# Altium schematic symbol library MCU.SchLib: 25 symbols (part 1 of 3)
Pins are listed as number, name and electrical type; pins without a type are passive.

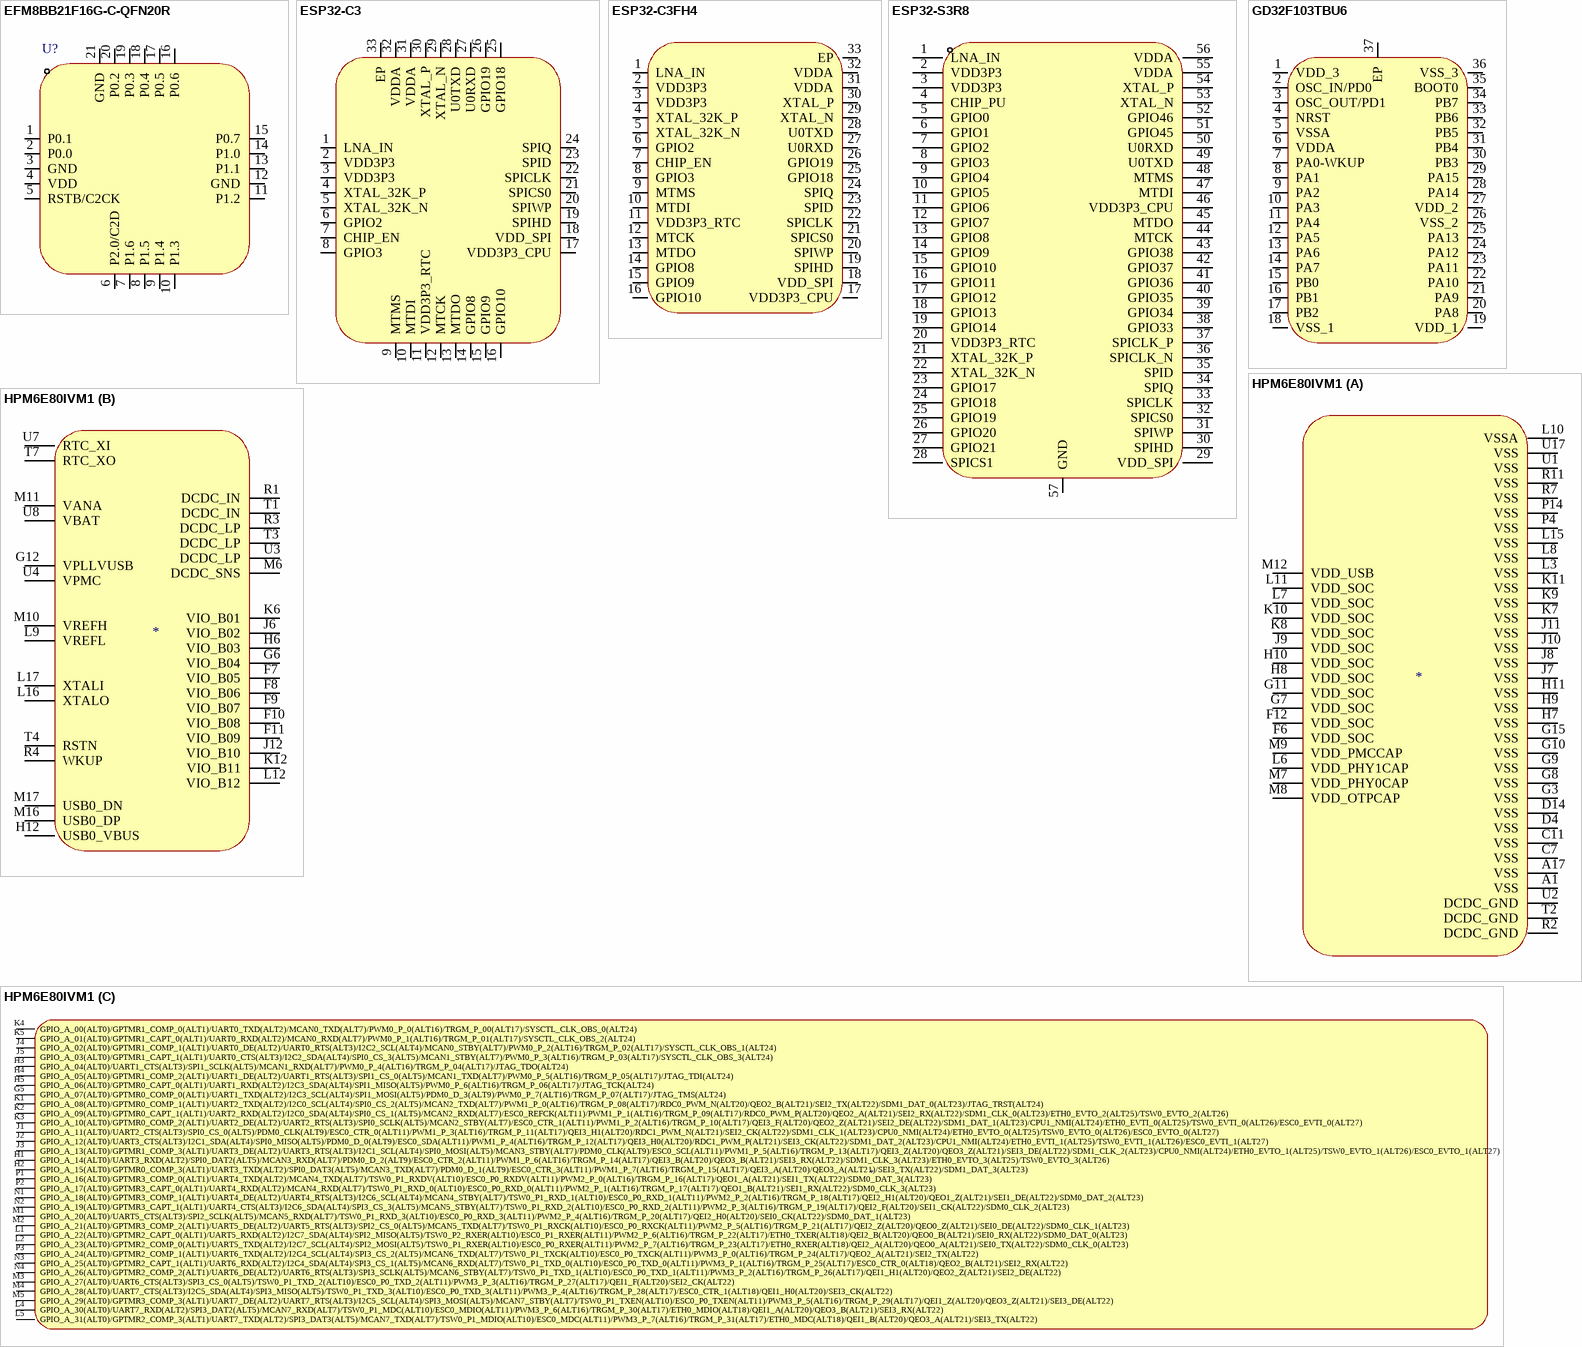
[diagram p0: symbols EFM8BB21F16G-C-QFN20R to HPM6E80IVM1]

## EFM8BB21F16G-C-QFN20R
designator U?  (value not drawn)
CPU内核:51系列;CPU最大主频:50MHz;工作电压范围:2.2V~3.6V;内部振荡器:有;程序 FLASH容量:16K@x8bit;RAM总容量:2.25KB;EEPROM/数据 FLASH容量:-;GPIO端口数量:16;ADC(单元数/通道数/位数):1@x15ch/12bit;外设/功能/协议栈:欠压检测/复位；看门狗；POR；PWM;工作温度范围:-40℃~+85℃;; Manufacturer: SILICON LABS(芯科); Add into BOM: yes; CPU Core: 51系列; Maximum Frequency: 50MHz; Internal Oscillator: 有; RAM Size: 2.25KB; GPIO Ports Number: 16; Name: EFM8BB21F16G-C-QFN20R; Symbol: EFM8BB21F16G-C-QFN20; Device: EFM8BB21F16G-C-QFN20R; LCSC Part Name: 51系列 50MHz 闪存：16K@x8bit RAM：2.25KB; Supplier Part: C80713; Manufacturer Part: EFM8BB21F16G-C-QFN20R; Supplier Footprint: QFN-20; JLCPCB Part Class: 扩展库; Datasheet: https://atta.szlcsc.com/upload/public/pdf/source/20160823/1471947533781.pdf; Supplier: LCSC; Convert to PCB: yes; Supply Voltage Range: 2.2V~3.6V; Program FLASH Size: 16K@x8bit; EEPROM/Data FLASH Size: -; ADC (Units/Channels/bits): 1@x15ch/12bit; Peripherals / Functions / Protocol Stacks: 欠压检测/复位；看门狗；POR；PWM; Operating Temperature Range: -40℃~+85℃
footprint QFN-20_L3.0-W3.0-P0.50-BL-EP1.7_EFM8BB21F16G
pins: 1 P0.1, 2 P0.0, 3 GND, 4 VDD, 5 RSTB/C2CK, 6 P2.0/C2D, 7 P1.6, 8 P1.5, 9 P1.4, 10 P1.3, 11 P1.2, 12 GND, 13 P1.1, 14 P1.0, 15 P0.7, 16 P0.6, 17 P0.5, 18 P0.4, 19 P0.3, 20 P0.2, 21 GND

## ESP32-C3
designator U??  (value not drawn)
Manufacturer: ESPRESSIF(乐鑫); Add into BOM: yes; CPU Core: RISC-V; RAM Size: 400KB; GPIO Ports Number: 22; Operating Voltage Range: 3V~3.6V; CPU Maximum Speed: 160MHz; ADC (Bit): 12bit; UART/USART: 2; I2C: 1; SPI: 3; Peripheral/Function: 蓝牙协议栈；片载温度传感器；真随机数发生器；DMA；看门狗；WIFI协议栈；硬件密码算法引擎；54位Timer；PWM；RTC实时时钟; communication protocol: 蓝牙协议；WIFI协议; Watchdog: 有; Symbol: esp32-c3; Device: ESP32-C3; LCSC Part Name: ESP32-C3; Supplier Part: C2838500; Manufacturer Part: ESP32-C3; Supplier Footprint: QFN-32-EP(5x5); JLCPCB Part Class: Extended Part; Datasheet: https://atta.szlcsc.com/upload/public/pdf/source/20231220/86199E4714F7A99F6AA9401EA48CDBDA.pdf; Supplier: LCSC; Convert to PCB: yes; Program Memory Type: -; Operating Temperature Range: -40℃~+105℃; DAC (Bit): -; PWM (Bit): -; I2S: 1; Universal Serial Bus: -; Internal Comparator: -; Real-Time Clock: 有; Infrared Data Association: -; Low-Voltage Detect: -; CCP Capture/Compare: -; Secure Digital Input and Output: -; Direct Memory Access: 有; Internal Oscillator: -
footprint QFN-32_L5.0-W5.0-P0.50-TL-EP3.7
pins: 1 LNA_IN, 2 VDD3P3, 3 VDD3P3, 4 XTAL_32K_P, 5 XTAL_32K_N, 6 GPIO2, 7 CHIP_EN, 8 GPIO3, 9 MTMS, 10 MTDI, 11 VDD3P3_RTC, 12 MTCK, 13 MTDO, 14 GPIO8, 15 GPIO9, 16 GPIO10, 17 VDD3P3_CPU, 18 VDD_SPI, 19 SPIHD, 20 SPIWP, 21 SPICS0, 22 SPICLK, 23 SPID, 24 SPIQ, 25 GPIO18, 26 GPIO19, 27 U0RXD, 28 U0TXD, 29 XTAL_N, 30 XTAL_P, 31 VDDA, 32 VDDA, 33 EP

## ESP32-C3FH4
designator U??  (value not drawn)
Manufacturer: ESPRESSIF(乐鑫); Add into BOM: yes; Symbol: ESP32-C3FH4; Device: ESP32-C3FH4; LCSC Part Name: ESP32-C3FH4; Supplier Part: C2858491; Manufacturer Part: ESP32-C3FH4; Supplier Footprint: QFN-32-EP(5x5); JLCPCB Part Class: Extended Part; Datasheet: https://atta.szlcsc.com/upload/public/pdf/source/20231220/86199E4714F7A99F6AA9401EA48CDBDA.pdf; Supplier: LCSC; Convert to PCB: yes
footprint QFN-32_L5.0-W5.0-P0.50-TL-EP3.7
pins: 1 LNA_IN, 2 VDD3P3, 3 VDD3P3, 4 XTAL_32K_P, 5 XTAL_32K_N, 6 GPIO2, 7 CHIP_EN, 8 GPIO3, 9 MTMS, 10 MTDI, 11 VDD3P3_RTC, 12 MTCK, 13 MTDO, 14 GPIO8, 15 GPIO9, 16 GPIO10, 17 VDD3P3_CPU, 18 VDD_SPI, 19 SPIHD, 20 SPIWP, 21 SPICS0, 22 SPICLK, 23 SPID, 24 SPIQ, 25 GPIO18, 26 GPIO19, 27 U0RXD, 28 U0TXD, 29 XTAL_N, 30 XTAL_P, 31 VDDA, 32 VDDA, 33 EP

## ESP32-S3R8
designator U??  (value not drawn)
Manufacturer: ESPRESSIF(乐鑫); Symbol: ESP32-S3(R8); Add into BOM: yes; Frequency Range: 2.412GHz~2.484GHz; Interface: I2C,I2S,SPI,UART,USB; Operating Voltage: 3.3V; Output Power: 21dBm; Data Rate: 150Mbps; Sensitivity: -98.4dBm; Name: ESP32-S3R8; Device: ESP32-S3R8; LCSC Part Name: ESP32-S3R8; Supplier Part: C2913194; Manufacturer Part: ESP32-S3R8; Supplier Footprint: QFN-56(7x7); JLCPCB Part Class: Extended Part; Datasheet: https://atta.szlcsc.com/upload/public/pdf/source/20231007/CDA236FFCB3F25B7D5220D2CA9867287.pdf; Supplier: LCSC; Convert to PCB: yes; Applications: 蓝牙,WiFi; Operating Temperature: -40℃~+85℃
footprint QFN-56_L7.0-W7.0-P0.40-TL-EP4.0
footprint QFN-56_L7.0-W7.0-P0.40-TL-EP4.0-NO_VIA
pins: 1 LNA_IN, 2 VDD3P3, 3 VDD3P3, 4 CHIP_PU, 5 GPIO0, 6 GPIO1, 7 GPIO2, 8 GPIO3, 9 GPIO4, 10 GPIO5, 11 GPIO6, 12 GPIO7, 13 GPIO8, 14 GPIO9, 15 GPIO10, 16 GPIO11, 17 GPIO12, 18 GPIO13, 19 GPIO14, 20 VDD3P3_RTC, 21 XTAL_32K_P, 22 XTAL_32K_N, 23 GPIO17, 24 GPIO18, 25 GPIO19, 26 GPIO20, 27 GPIO21, 28 SPICS1, 29 VDD_SPI, 30 SPIHD, 31 SPIWP, 32 SPICS0, 33 SPICLK, 34 SPIQ, 35 SPID, 36 SPICLK_N, 37 SPICLK_P, 38 GPIO33, 39 GPIO34, 40 GPIO35, 41 GPIO36, 42 GPIO37, 43 GPIO38, 44 MTCK, 45 MTDO, 46 VDD3P3_CPU, 47 MTDI, 48 MTMS, 49 U0TXD, 50 U0RXD, 51 GPIO45, 52 GPIO46, 53 XTAL_N, 54 XTAL_P, 55 VDDA, 56 VDDA, 57 GND

## GD32F103TBU6
designator U??  (value not drawn)
Manufacturer: GigaDevice(兆易创新); Add into BOM: yes; CPU Core: ARM Cortex-M3; CPU Maximum Speed: 108MHz; Program Storage Size: 128KB; Program Memory Type: FLASH; RAM Size: 20KB; GPIO Ports Number: 26; ADC (Bit): 12bit; 16Bit Timer: 4; CAN: 1; UART/USART: 2; Peripheral/Function: 看门狗；RTC实时时钟; Watchdog: 有; Name: GD32F103TBU6; Symbol: GD32F103TBU6; Device: GD32F103TBU6; LCSC Part Name: ARM Cortex-M3 108MHz; Supplier Part: C94537; Manufacturer Part: GD32F103TBU6; Supplier Footprint: QFN-36-EP(6x6); JLCPCB Part Class: Extended Part; Datasheet: https://atta.szlcsc.com/upload/public/pdf/source/20170310/1489116304494.pdf; Supplier: LCSC; Convert to PCB: yes; Operating Voltage Range: -; EEPROM: 128KB; DAC (Bit): -; PWM (Bit): -; 8Bit Timer: -; 32Bit Timer: -; I2C: 1; I2S: -; SPI: 1; Universal Serial Bus: -; Internal Comparator: -; communication protocol: -; Real-Time Clock: 有; Infrared Data Association: -; Low-Voltage Detect: -; CCP Capture/Compare: -; Secure Digital Input and Output: -; Direct Memory Access: -; Internal Oscillator: -; Operating Temperature Range: -
footprint QFN-36_L6.0-W6.0-P0.50-BL-EP3.9
pins: 1 VDD_3, 2 OSC_IN/PD0, 3 OSC_OUT/PD1, 4 NRST, 5 VSSA, 6 VDDA, 7 PA0-WKUP, 8 PA1, 9 PA2, 10 PA3, 11 PA4, 12 PA5, 13 PA6, 14 PA7, 15 PB0, 16 PB1, 17 PB2, 18 VSS_1, 19 VDD_1, 20 PA8, 21 PA9, 22 PA10, 23 PA11, 24 PA12, 25 PA13, 26 VSS_2, 27 VDD_2, 28 PA14, 29 PA15, 30 PB3, 31 PB4, 32 PB5, 33 PB6, 34 PB7, 35 BOOT0, 36 VSS_3, 37 EP

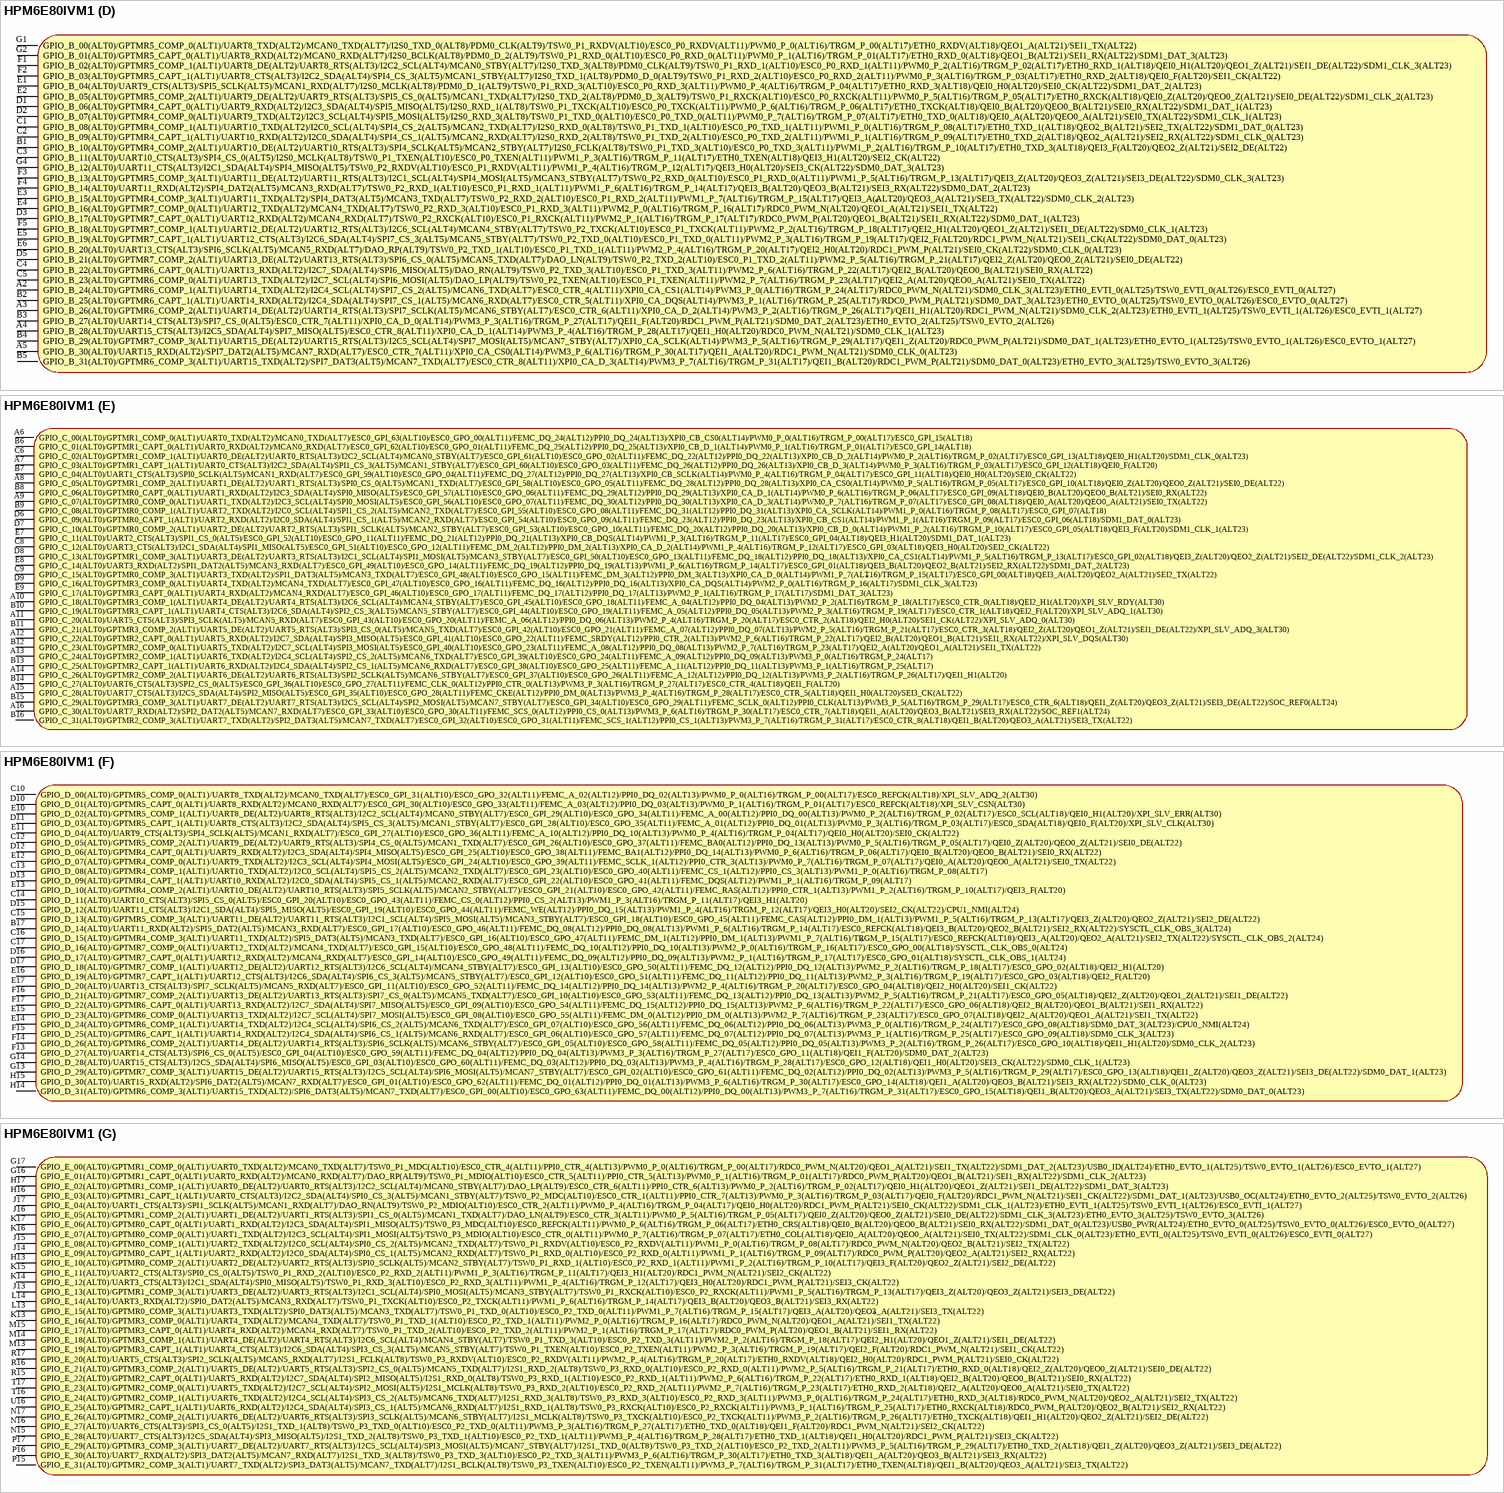
[diagram p1: symbol HPM6E80IVM1]

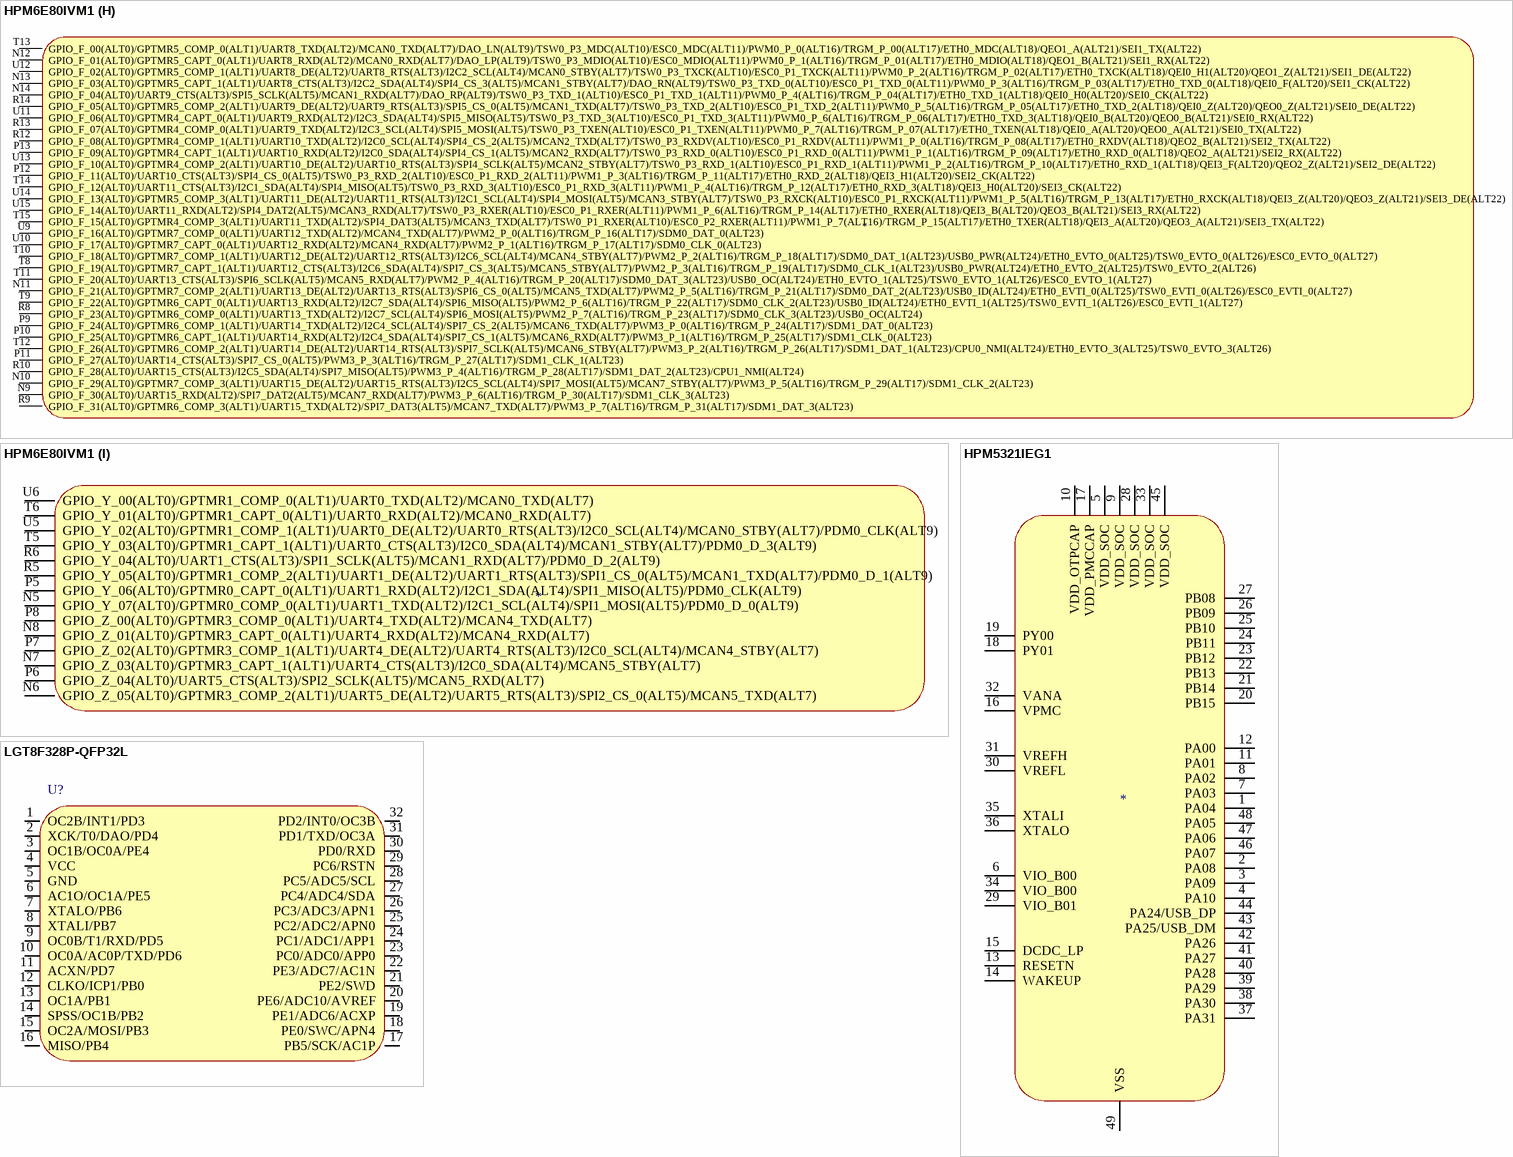
[diagram p2: symbols HPM6E80IVM1 to LGT8F328P-QFP32L]